# Altium schematic symbol library Relay-SPST.Schlib: 1 symbol
Pins are listed as number, name and electrical type; pins without a type are passive.

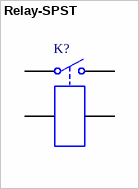
[diagram p0: symbol Relay-SPST]

## Relay-SPST
designator K?
Single-Pole Single-Throw Relay
pins: 1, 2, 3, 4